# Altium integrated library NSC Switcher.IntLib: 922 symbols (part 22 of 24)
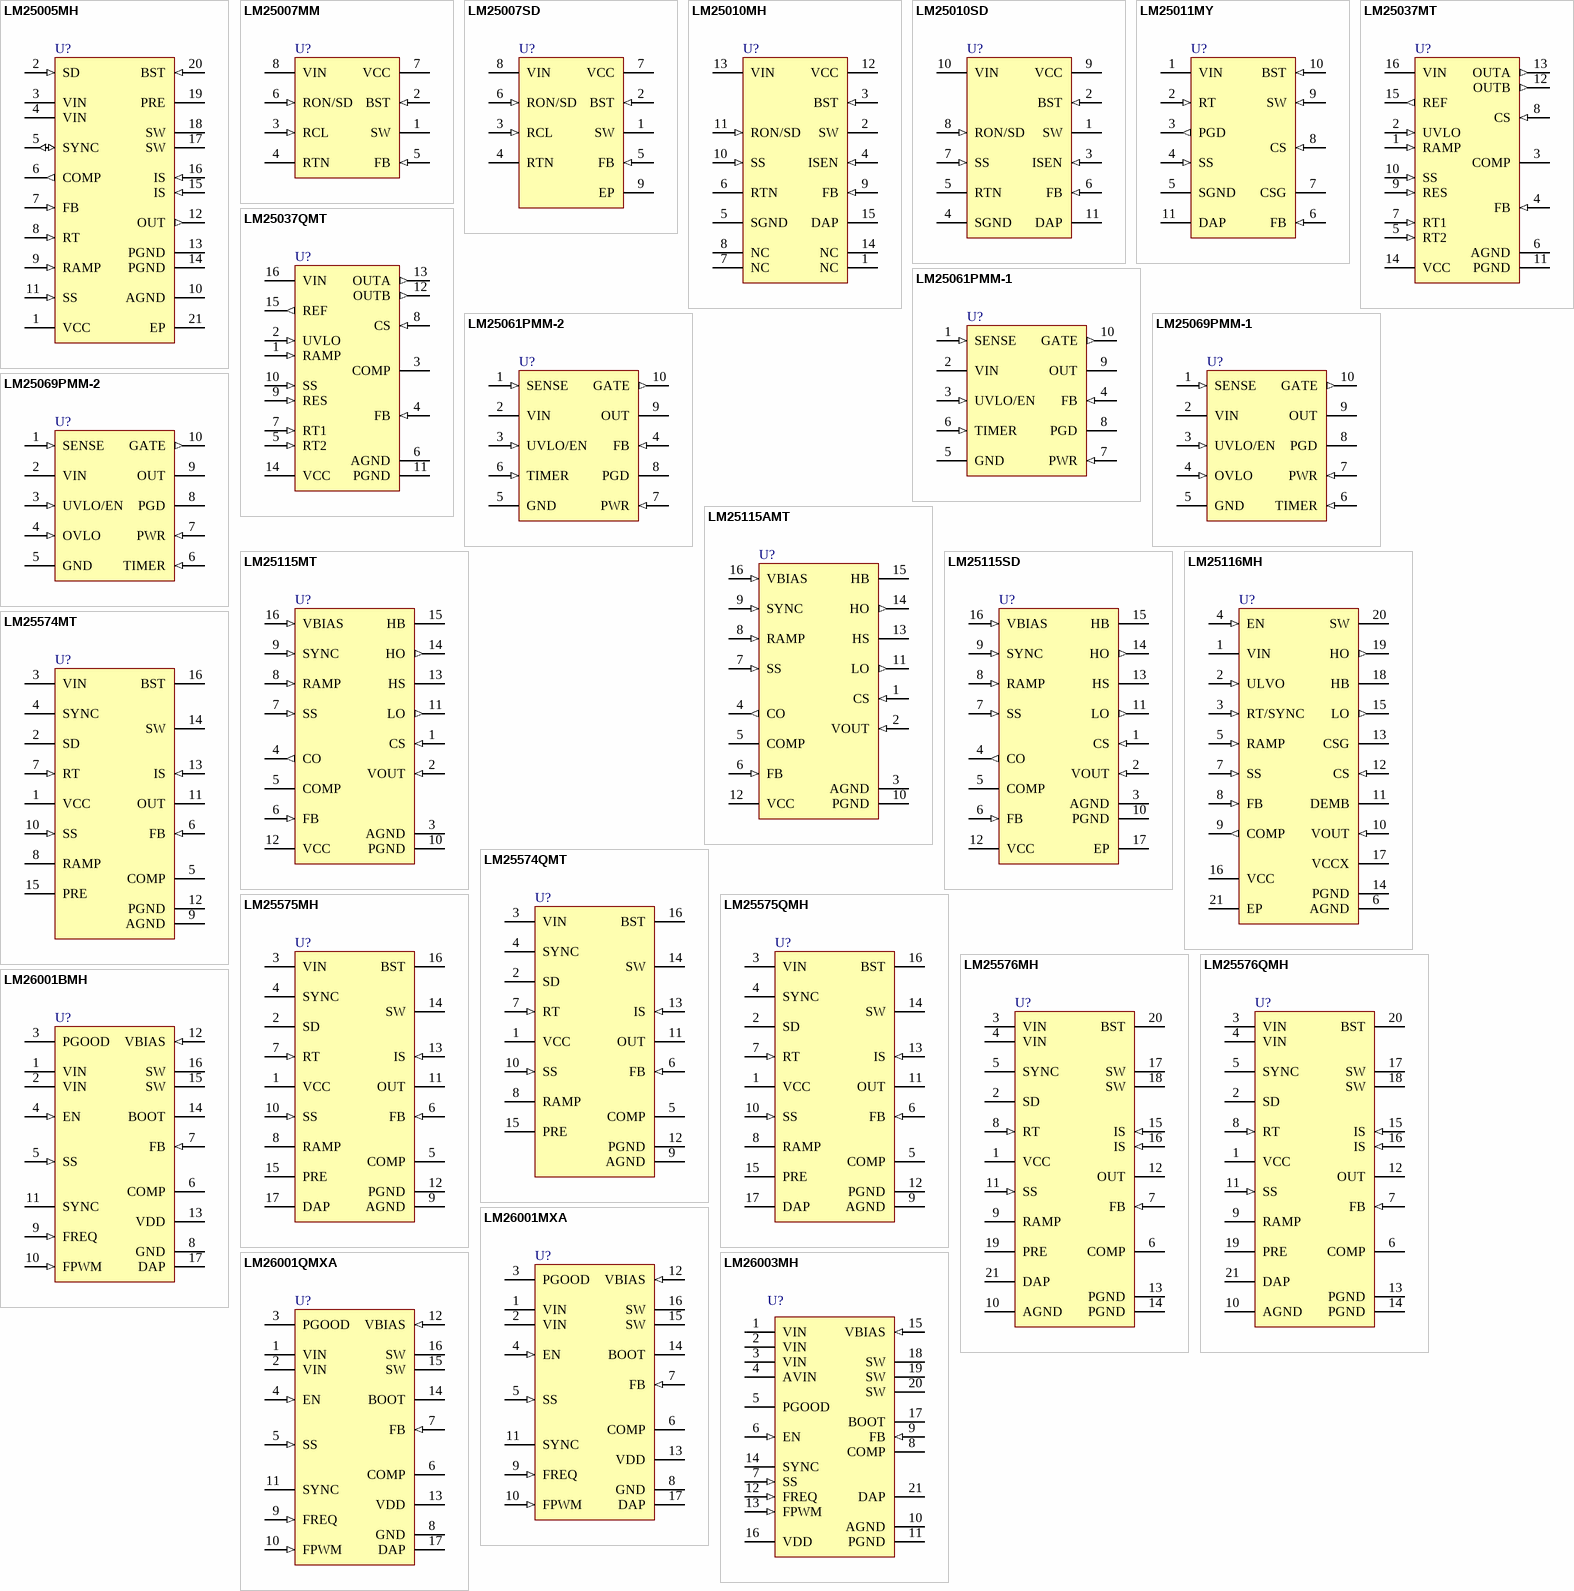
[diagram p49: symbols LM25005MH to LM26003MH]

## LM25061PMM-1
designator U?
Positive Low Voltage Power Limiting Hot Swap Controller; PartNumber: LM25061PMM-1; Manufacturer: National Semiconductor; CompType: Switcher; PackageTopMarking: ZXTT*SXSB; PowerWise: N; FirstPublished: 9-Oct-2009; DatasheetVersion: Jul-2009; PackageVersion: revB, Jul-2003; PackageReference: MUB10A; Publisher: Altium Limited; PackageDescription: Mini-SO, Molded, .118 x .118 x .034in Body, 10 Lead, .0197in Pitch; RoHS: Y; PinCount: 10; DigiKeyPartNumber: LM25061PMM-1-ND; Code_JEDEC: MO-187-BA; ComponentLink1Description: LM25061 Datasheet; ComponentLink1URL: http://www.national.com/ds/LM/LM25061.pdf; ComponentLink2Description: LM25061 Web Page; ComponentLink2URL: http://www.national.com/pf/LM/LM25061.html; ComponentLink3Description: MUB10A Package Page; ComponentLink3URL: http://www.national.com/packaging/folders/mub10a.html
footprint MUB10A_N (TSSOP, 10-Leads, Body 3x3mm, Pitch 0.5mm, IPC Medium Density)
footprint MUB10A_L (TSSOP, 10-Leads, Body 3x3mm, Pitch 0.5mm, IPC High Density)
footprint MUB10A_M (TSSOP, 10-Leads, Body 3x3mm, Pitch 0.5mm, IPC Low Density)
pins: 1 SENSE (in), 2 VIN (power), 3 UVLO/EN (in), 4 FB (in), 5 GND (power), 6 TIMER (in), 7 PWR (in), 8 PGD (oc), 9 OUT (power), 10 GATE (out)

## LM25061PMM-2
designator U?
Positive Low Voltage Power Limiting Hot Swap Controller; PartNumber: LM25061PMM-2; Manufacturer: National Semiconductor; CompType: Switcher; PackageTopMarking: ZXTT*SXRB; PowerWise: N; FirstPublished: 9-Oct-2009; DatasheetVersion: Jul-2009; PackageVersion: revB, Jul-2003; PackageReference: MUB10A; Publisher: Altium Limited; PackageDescription: Mini-SO, Molded, .118 x .118 x .034in Body, 10 Lead, .0197in Pitch; RoHS: Y; PinCount: 10; DigiKeyPartNumber: LM25061PMM-2-ND; Code_JEDEC: MO-187-BA; ComponentLink1Description: LM25061 Datasheet; ComponentLink1URL: http://www.national.com/ds/LM/LM25061.pdf; ComponentLink2Description: LM25061 Web Page; ComponentLink2URL: http://www.national.com/pf/LM/LM25061.html; ComponentLink3Description: MUB10A Package Page; ComponentLink3URL: http://www.national.com/packaging/folders/mub10a.html
footprint MUB10A_N (TSSOP, 10-Leads, Body 3x3mm, Pitch 0.5mm, IPC Medium Density)
footprint MUB10A_L (TSSOP, 10-Leads, Body 3x3mm, Pitch 0.5mm, IPC High Density)
footprint MUB10A_M (TSSOP, 10-Leads, Body 3x3mm, Pitch 0.5mm, IPC Low Density)
pins: 1 SENSE (in), 2 VIN (power), 3 UVLO/EN (in), 4 FB (in), 5 GND (power), 6 TIMER (in), 7 PWR (in), 8 PGD (oc), 9 OUT (power), 10 GATE (out)

## LM25069PMM-1
designator U?
Positive Low Voltage Power Limiting Hot Swap Controller; PartNumber: LM25069PMM-1; Manufacturer: National Semiconductor; CompType: Switcher; PackageTopMarking: ZXTT*SXNB; PowerWise: N; FirstPublished: 9-Oct-2009; DatasheetVersion: Jul-2009; PackageVersion: revB, Jul-2003; PackageReference: MUB10A; Publisher: Altium Limited; PackageDescription: Mini-SO, Molded, .118 x .118 x .034in Body, 10 Lead, .0197in Pitch; RoHS: Y; PinCount: 10; DigiKeyPartNumber: LM25069PMM-1-ND; Code_JEDEC: MO-187-BA; ComponentLink1Description: LM25069 Datasheet; ComponentLink1URL: http://www.national.com/ds/LM/LM25069.pdf; ComponentLink2Description: LM25069 Web Page; ComponentLink2URL: http://www.national.com/pf/LM/LM25069.html; ComponentLink3Description: MUB10A Package Page; ComponentLink3URL: http://www.national.com/packaging/folders/mub10a.html
footprint MUB10A_N (TSSOP, 10-Leads, Body 3x3mm, Pitch 0.5mm, IPC Medium Density)
footprint MUB10A_L (TSSOP, 10-Leads, Body 3x3mm, Pitch 0.5mm, IPC High Density)
footprint MUB10A_M (TSSOP, 10-Leads, Body 3x3mm, Pitch 0.5mm, IPC Low Density)
pins: 1 SENSE (in), 2 VIN (power), 3 UVLO/EN (in), 4 OVLO (in), 5 GND (power), 6 TIMER (in), 7 PWR (in), 8 PGD (oc), 9 OUT (power), 10 GATE (out)

## LM25069PMM-2
designator U?
Positive Low Voltage Power Limiting Hot Swap Controller; PartNumber: LM25069PMM-2; Manufacturer: National Semiconductor; CompType: Switcher; PackageTopMarking: ZXTT*SXLB; PowerWise: N; FirstPublished: 9-Oct-2009; DatasheetVersion: Jul-2009; PackageVersion: revB, Jul-2003; PackageReference: MUB10A; Publisher: Altium Limited; PackageDescription: Mini-SO, Molded, .118 x .118 x .034in Body, 10 Lead, .0197in Pitch; RoHS: Y; PinCount: 10; DigiKeyPartNumber: LM25069PMM-2-ND; Code_JEDEC: MO-187-BA; ComponentLink1Description: LM25069 Datasheet; ComponentLink1URL: http://www.national.com/ds/LM/LM25069.pdf; ComponentLink2Description: LM25069 Web Page; ComponentLink2URL: http://www.national.com/pf/LM/LM25069.html; ComponentLink3Description: MUB10A Package Page; ComponentLink3URL: http://www.national.com/packaging/folders/mub10a.html
footprint MUB10A_N (TSSOP, 10-Leads, Body 3x3mm, Pitch 0.5mm, IPC Medium Density)
footprint MUB10A_L (TSSOP, 10-Leads, Body 3x3mm, Pitch 0.5mm, IPC High Density)
footprint MUB10A_M (TSSOP, 10-Leads, Body 3x3mm, Pitch 0.5mm, IPC Low Density)
pins: 1 SENSE (in), 2 VIN (power), 3 UVLO/EN (in), 4 OVLO (in), 5 GND (power), 6 TIMER (in), 7 PWR (in), 8 PGD (oc), 9 OUT (power), 10 GATE (out)

## LM25115AMT
designator U?
Secondary Side Post Regulator/DC-DC Converter with Power-Up/Power-Down Tracking; PartNumber: LM25115AMT; Manufacturer: National Semiconductor; CompType: Switcher; PackageTopMarking: NSUZXYTT*L25115*AMT; FirstPublished: 4-Dec-2008; DatasheetVersion: Nov-2005; PackageVersion: revD, Jun-2003; PackageReference: MTC16; Publisher: Altium Limited; PackageDescription: Molded TSSOP, Jedec, 5 x 4.4 x 0.9mm Body, 16 Lead, 0.65mm Pitch; RoHS: Y; PinCount: 16; DigiKeyPartNumber: LM25115AMT-ND; Code_JEDEC: MO-153-AB; ComponentLink1Description: LM25115A Datasheet; ComponentLink1URL: http://www.national.com/ds/LM/LM25115A.pdf; ComponentLink2Description: LM25115A Web Page; ComponentLink2URL: http://www.national.com/pf/LM/LM25115A.html; ComponentLink3Description: MTC16 Package Drawing; ComponentLink3URL: http://www.national.com/packaging/folders/mtc16.html
footprint MTC16_N (TSOP, 16-Leads, Body 5x4.4mm, Pitch 0.65mm, IPC Medium Density)
footprint MTC16_L (TSOP, 16-Leads, Body 5x4.4mm, Pitch 0.65mm, IPC High Density)
footprint MTC16_M (TSOP, 16-Leads, Body 5x4.4mm, Pitch 0.65mm, IPC Low Density)
pins: 1 CS (in), 2 VOUT (in), 3 AGND (power), 4 CO (out), 5 COMP, 6 FB (in), 7 SS (in), 8 RAMP (in), 9 SYNC (in), 10 PGND (power), 11 LO (out), 12 VCC (power), 13 HS, 14 HO (out), 15 HB, 16 VBIAS (in)

## LM25115MT
designator U?
Secondary Side Post Regulator Controller; PartNumber: LM25115MT; Manufacturer: National Semiconductor; CompType: Switcher; PackageTopMarking: NSUZXYTT*L25115*MT; FirstPublished: 4-Dec-2008; DatasheetVersion: Nov-2005; PackageVersion: revD, Jun-2003; PackageReference: MTC16; Publisher: Altium Limited; PackageDescription: Molded TSSOP, Jedec, 5 x 4.4 x 0.9mm Body, 16 Lead, 0.65mm Pitch; RoHS: Y; PinCount: 16; DigiKeyPartNumber: LM25115MT-ND; Code_JEDEC: MO-153-AB; ComponentLink1Description: LM25115 Datasheet; ComponentLink1URL: http://www.national.com/ds/LM/LM25115.pdf; ComponentLink2Description: LM25115 Web Page; ComponentLink2URL: http://www.national.com/pf/LM/LM25115.html; ComponentLink3Description: MTC16 Package Drawing; ComponentLink3URL: http://www.national.com/packaging/folders/mtc16.html
footprint MTC16_N (TSOP, 16-Leads, Body 5x4.4mm, Pitch 0.65mm, IPC Medium Density)
footprint MTC16_L (TSOP, 16-Leads, Body 5x4.4mm, Pitch 0.65mm, IPC High Density)
footprint MTC16_M (TSOP, 16-Leads, Body 5x4.4mm, Pitch 0.65mm, IPC Low Density)
pins: 1 CS (in), 2 VOUT (in), 3 AGND (power), 4 CO (out), 5 COMP, 6 FB (in), 7 SS (in), 8 RAMP (in), 9 SYNC (in), 10 PGND (power), 11 LO (out), 12 VCC (power), 13 HS, 14 HO (out), 15 HB, 16 VBIAS (in)

## LM25115SD
designator U?
Secondary Side Post Regulator Controller; PartNumber: LM25115SD; Manufacturer: National Semiconductor; CompType: Switcher; PackageTopMarking: NS*UZXYTT*L25115; FirstPublished: 4-Dec-2008; DatasheetVersion: Nov-2005; PackageVersion: revA, May-2003; PackageReference: SDA16A; Publisher: Altium Limited; PackageDescription: LLP, Plastic, Dual, 5 x 5 x 0.8mm Body,16 Lead, 0.5mm Pitch, No Pullback; RoHS: Y; PinCount: 16; DigiKeyPartNumber: LM25115SDCT-ND; ComponentLink1Description: LM25115 Datasheet; ComponentLink1URL: http://www.national.com/ds/LM/LM25115.pdf; ComponentLink2Description: LM25115 Web Page; ComponentLink2URL: http://www.national.com/pf/LM/LM25115.html; ComponentLink3Description: SDA16A Package Drawing; ComponentLink3URL: http://www.national.com/packaging/folders/sda16a.html
footprint SDA16A (SON, 16-Leads, Body 5x5mm, Pitch 0.5mm, NSC Recommended)
pins: 1 CS (in), 2 VOUT (in), 3 AGND (power), 4 CO (out), 5 COMP, 6 FB (in), 7 SS (in), 8 RAMP (in), 9 SYNC (in), 10 PGND (power), 11 LO (out), 12 VCC (power), 13 HS, 14 HO (out), 15 HB, 16 VBIAS (in), 17 EP (power)

## LM25116MH
designator U?
Wide Range Synchronous Buck Controller; PartNumber: LM25116MH; Manufacturer: National Semiconductor; CompType: Switcher; PackageTopMarking: NSUZXYTT*LM25116*MH; FirstPublished: 4-Dec-2008; DatasheetVersion: Apr-2007; PackageVersion: revC, Jul-2006; PackageReference: MXA20A; Publisher: Altium Limited; PackageDescription: Molded TSSOP, Jedec, 6.5 x 4.4 x 0.9mm Body, 20 Lead, 0.65mm Pitch, Exposed Pad; RoHS: Y; PinCount: 20; DigiKeyPartNumber: LM25116MH-ND; Code_JEDEC: MO-153-ACT; ComponentLink1Description: LM25116 Datasheet; ComponentLink1URL: http://www.national.com/ds/LM/LM25116.pdf; ComponentLink2Description: LM25116 Web Page; ComponentLink2URL: http://www.national.com/pf/LM/LM25116.html; ComponentLink3Description: MXA20A Package Drawing; ComponentLink3URL: http://www.national.com/packaging/folders/mxa20a.html
footprint MXA20A_N (TSOP, 20-Leads, Body 6.5x4.4mm, Pitch 0.65mm, Exposed Pad, IPC Medium Density)
footprint MXA20A_L (TSOP, 20-Leads, Body 6.5x4.4mm, Pitch 0.65mm, Exposed Pad, IPC High Density)
footprint MXA20A_M (TSOP, 20-Leads, Body 6.5x4.4mm, Pitch 0.65mm, Exposed Pad, IPC Low Density)
pins: 1 VIN (power), 2 ULVO (in), 3 RT/SYNC (in), 4 EN (in), 5 RAMP (in), 6 AGND (power), 7 SS (in), 8 FB (in), 9 COMP (out), 10 VOUT (in), 11 DEMB, 12 CS (in), 13 CSG, 14 PGND (power), 15 LO (out), 16 VCC (power), 17 VCCX (power), 18 HB, 19 HO (out), 20 SW (power), 21 EP (power)

## LM25574MT
designator U?
SIMPLE SWITCHER 42V, 0.5A Step-Down Switching Regulator; PartNumber: LM25574MT; Manufacturer: National Semiconductor; PackageTopMarking: NSUZXYTT*L25574*MT; PowerWise: Y; FirstPublished: 4-Dec-2008; DatasheetVersion: Mar-2009; PackageVersion: revD, Jun-2003; PackageReference: MTC16; Publisher: Altium Limited; PackageDescription: Molded TSSOP, Jedec, 5 x 4.4 x 0.9mm Body, 16 Lead, 0.65mm Pitch; CompType: Switcher; RoHS: Y; PinCount: 16; DigiKeyPartNumber: LM25574MT-ND; Code_JEDEC: MO-153-AB; ComponentLink1Description: LM25574 Datasheet; ComponentLink1URL: http://www.national.com/ds/LM/LM25574.pdf; ComponentLink2Description: LM25574 Web Page; ComponentLink2URL: http://www.national.com/pf/LM/LM25574.html; ComponentLink3Description: MTC16 Package Page; ComponentLink3URL: http://www.national.com/packaging/folders/mtc16.html
footprint MTC16_N (TSOP, 16-Leads, Body 5x4.4mm, Pitch 0.65mm, IPC Medium Density)
footprint MTC16_L (TSOP, 16-Leads, Body 5x4.4mm, Pitch 0.65mm, IPC High Density)
footprint MTC16_M (TSOP, 16-Leads, Body 5x4.4mm, Pitch 0.65mm, IPC Low Density)
pins: 1 VCC (power), 2 SD, 3 VIN (power), 4 SYNC, 5 COMP, 6 FB (in), 7 RT (in), 8 RAMP, 9 AGND (power), 10 SS (in), 11 OUT (power), 12 PGND (power), 13 IS (in), 14 SW (power), 15 PRE (oc), 16 BST

## LM25574QMT
designator U?
SIMPLE SWITCHER® 42V, 0.5A Step-Down Switching Regulator; PartNumber: LM25574QMT; Manufacturer: National Semiconductor; PackageTopMarking: NSUZXYTT*L25574*QMT; PowerWise: N; FirstPublished: 29-May-2009; DatasheetVersion: Mar-2009; PackageVersion: revD, Jun-2003; PackageReference: MTC16; Publisher: Altium Limited; PackageDescription: Molded TSSOP, Jedec, 5 x 4.4 x 0.9mm Body, 16 Lead, 0.65mm Pitch; CompType: Switcher; RoHS: Y; PinCount: 16; Code_JEDEC: MO-153-AB; ComponentLink1Description: LM25574 Datasheet; ComponentLink1URL: http://www.national.com/ds/LM/LM25574.pdf; ComponentLink2Description: LM25574 Web Page; ComponentLink2URL: http://www.national.com/pf/LM/LM25574.html; ComponentLink3Description: MTC16 Package Page; ComponentLink3URL: http://www.national.com/packaging/folders/mtc16.html
footprint MTC16_N (TSOP, 16-Leads, Body 5x4.4mm, Pitch 0.65mm, IPC Medium Density)
footprint MTC16_L (TSOP, 16-Leads, Body 5x4.4mm, Pitch 0.65mm, IPC High Density)
footprint MTC16_M (TSOP, 16-Leads, Body 5x4.4mm, Pitch 0.65mm, IPC Low Density)
pins: 1 VCC (power), 2 SD, 3 VIN (power), 4 SYNC, 5 COMP, 6 FB (in), 7 RT (in), 8 RAMP, 9 AGND (power), 10 SS (in), 11 OUT (power), 12 PGND (power), 13 IS (in), 14 SW (power), 15 PRE (oc), 16 BST

## LM25575MH
designator U?
SIMPLE SWITCHER 42V, 1.5A Step-Down Switching Regulator; PartNumber: LM25575MH; Manufacturer: National Semiconductor; PackageTopMarking: NSUZXYTT*L25575*MH; PowerWise: Y; FirstPublished: 4-Dec-2008; DatasheetVersion: Mar-2009; PackageVersion: revA, Apr-2003; PackageReference: MXA16A; Publisher: Altium Limited; PackageDescription: Molded TSSOP, Jedec, Exposed Pad, 5.0 x 4.4 x 0.9mm Body,16 Lead, 0.65mm Pitch; CompType: Switcher; RoHS: O; PinCount: 16; DigiKeyPartNumber: LM25575MH-ND; Code_JEDEC: MO-153-ABT; ComponentLink1Description: LM25575 Datasheet; ComponentLink1URL: http://www.national.com/ds/LM/LM25575.pdf; ComponentLink2Description: LM25575 Web Page; ComponentLink2URL: http://www.national.com/pf/LM/LM25575.html; ComponentLink3Description: MXA16A Package Page; ComponentLink3URL: http://www.national.com/packaging/folders/mxa16a.html
footprint MXA16A_N (TSOP, 16-Leads, Body 5x4.4mm, Pitch 0.65mm, Exposed Pad, IPC Medium Density)
footprint MXA16A_L (TSOP, 16-Leads, Body 5x4.4mm, Pitch 0.65mm, Exposed Pad, IPC High Density)
footprint MXA16A_M (TSOP, 16-Leads, Body 5x4.4mm, Pitch 0.65mm, Exposed Pad, IPC Low Density)
pins: 1 VCC (power), 2 SD, 3 VIN (power), 4 SYNC, 5 COMP, 6 FB (in), 7 RT (in), 8 RAMP, 9 AGND (power), 10 SS (in), 11 OUT (power), 12 PGND (power), 13 IS (in), 14 SW (power), 15 PRE (oc), 16 BST, 17 DAP (power)

## LM25575QMH
designator U?
SIMPLE SWITCHER® 42V, 1.5A Step-Down Switching Regulator; PartNumber: LM25575QMH; Manufacturer: National Semiconductor; PackageTopMarking: NSUZXYTT*L25575*QMH; PowerWise: N; FirstPublished: 29-May-2009; DatasheetVersion: Mar-2009; PackageVersion: revA, Apr-2003; PackageReference: MXA16A; Publisher: Altium Limited; PackageDescription: Molded TSSOP, Jedec, Exposed Pad, 5.0 x 4.4 x 0.9mm Body,16 Lead, 0.65mm Pitch; CompType: Switcher; RoHS: Y; PinCount: 16; Code_JEDEC: MO-153-ABT; ComponentLink1Description: LM25575 Datasheet; ComponentLink1URL: http://www.national.com/ds/LM/LM25575.pdf; ComponentLink2Description: LM25575 Web Page; ComponentLink2URL: http://www.national.com/pf/LM/LM25575.html; ComponentLink3Description: MXA16A Package Page; ComponentLink3URL: http://www.national.com/packaging/folders/mxa16a.html
footprint MXA16A_N (TSOP, 16-Leads, Body 5x4.4mm, Pitch 0.65mm, Exposed Pad, IPC Medium Density)
footprint MXA16A_L (TSOP, 16-Leads, Body 5x4.4mm, Pitch 0.65mm, Exposed Pad, IPC High Density)
footprint MXA16A_M (TSOP, 16-Leads, Body 5x4.4mm, Pitch 0.65mm, Exposed Pad, IPC Low Density)
pins: 1 VCC (power), 2 SD, 3 VIN (power), 4 SYNC, 5 COMP, 6 FB (in), 7 RT (in), 8 RAMP, 9 AGND (power), 10 SS (in), 11 OUT (power), 12 PGND (power), 13 IS (in), 14 SW (power), 15 PRE (oc), 16 BST, 17 DAP (power)

## LM25576MH
designator U?
SIMPLE SWITCHER 42V, 3A Step-Down Switching Regulator; PartNumber: LM25576MH; Manufacturer: National Semiconductor; PackageTopMarking: NSUZXYTT*LM25576*MH; PowerWise: Y; FirstPublished: 4-Dec-2008; DatasheetVersion: Mar-2009; PackageVersion: revC, Jul-2006; PackageReference: MXA20A; Publisher: Altium Limited; PackageDescription: Molded TSSOP, Jedec, 6.5 x 4.4 x 0.9mm Body, 20 Lead, 0.65mm Pitch, Exposed Pad; CompType: Switcher; RoHS: O; PinCount: 20; DigiKeyPartNumber: LM25576MH-ND; Code_JEDEC: MO-153-ACT; ComponentLink1Description: LM25576 Datasheet; ComponentLink1URL: http://www.national.com/ds/LM/LM25576.pdf; ComponentLink2Description: LM25576 Web Page; ComponentLink2URL: http://www.national.com/pf/LM/LM25576.html; ComponentLink3Description: MXA20A Package Page; ComponentLink3URL: http://www.national.com/packaging/folders/mxa20a.html
footprint MXA20A_N (TSOP, 20-Leads, Body 6.5x4.4mm, Pitch 0.65mm, Exposed Pad, IPC Medium Density)
footprint MXA20A_L (TSOP, 20-Leads, Body 6.5x4.4mm, Pitch 0.65mm, Exposed Pad, IPC High Density)
footprint MXA20A_M (TSOP, 20-Leads, Body 6.5x4.4mm, Pitch 0.65mm, Exposed Pad, IPC Low Density)
pins: 1 VCC (power), 2 SD, 3 VIN (power), 4 VIN (power), 5 SYNC, 6 COMP, 7 FB (in), 8 RT (in), 9 RAMP, 10 AGND (power), 11 SS (in), 12 OUT (power), 13 PGND (power), 14 PGND (power), 15 IS (in), 16 IS (in), 17 SW (power), 18 SW (power), 19 PRE (oc), 20 BST, 21 DAP (power)

## LM25576QMH
designator U?
SIMPLE SWITCHER® 42V, 3A Step-Down Switching Regulator; PartNumber: LM25576QMH; Manufacturer: National Semiconductor; PackageTopMarking: NSUZXYTT*LM25576*QMH; PowerWise: N; FirstPublished: 29-May-2009; DatasheetVersion: Mar-2009; PackageVersion: revC, Jul-2006; PackageReference: MXA20A; Publisher: Altium Limited; PackageDescription: Molded TSSOP, Jedec, 6.5 x 4.4 x 0.9mm Body, 20 Lead, 0.65mm Pitch, Exposed Pad; CompType: Switcher; RoHS: Y; PinCount: 20; Code_JEDEC: MO-153-ACT; ComponentLink1Description: LM25576 Datasheet; ComponentLink1URL: http://www.national.com/ds/LM/LM25576.pdf; ComponentLink2Description: LM25576 Web Page; ComponentLink2URL: http://www.national.com/pf/LM/LM25576.html; ComponentLink3Description: MXA20A Package Page; ComponentLink3URL: http://www.national.com/packaging/folders/mxa20a.html
footprint MXA20A_N (TSOP, 20-Leads, Body 6.5x4.4mm, Pitch 0.65mm, Exposed Pad, IPC Medium Density)
footprint MXA20A_L (TSOP, 20-Leads, Body 6.5x4.4mm, Pitch 0.65mm, Exposed Pad, IPC High Density)
footprint MXA20A_M (TSOP, 20-Leads, Body 6.5x4.4mm, Pitch 0.65mm, Exposed Pad, IPC Low Density)
pins: 1 VCC (power), 2 SD, 3 VIN (power), 4 VIN (power), 5 SYNC, 6 COMP, 7 FB (in), 8 RT (in), 9 RAMP, 10 AGND (power), 11 SS (in), 12 OUT (power), 13 PGND (power), 14 PGND (power), 15 IS (in), 16 IS (in), 17 SW (power), 18 SW (power), 19 PRE (oc), 20 BST, 21 DAP (power)

## LM26001BMH
designator U?
1.5A Switching Regulator with High Efficiency Sleep Mode; PartNumber: LM26001BMH; Manufacturer: National Semiconductor; CompType: Switcher; PackageTopMarking: NSUZXYTT*L26001*BMH; PowerWise: Y; FirstPublished: 4-Dec-2008; DatasheetVersion: May-2008; PackageVersion: revA, Apr-2003; PackageReference: MXA16A; Publisher: Altium Limited; PackageDescription: Molded TSSOP, Jedec, Exposed Pad, 5.0 x 4.4 x 0.9mm Body,16 Lead, 0.65mm Pitch; RoHS: Y; PinCount: 16; DigiKeyPartNumber: LM26001BMH-ND; Code_JEDEC: MO-153-ABT; ComponentLink1Description: LM26001B Datasheet; ComponentLink1URL: http://www.national.com/ds/LM/LM26001B.pdf; ComponentLink2Description: LM26001B Web Page; ComponentLink2URL: http://www.national.com/pf/LM/LM26001B.html; ComponentLink3Description: MXA16A Package Page; ComponentLink3URL: http://www.national.com/packaging/folders/mxa16a.html
footprint MXA16A_N (TSOP, 16-Leads, Body 5x4.4mm, Pitch 0.65mm, Exposed Pad, IPC Medium Density)
footprint MXA16A_L (TSOP, 16-Leads, Body 5x4.4mm, Pitch 0.65mm, Exposed Pad, IPC High Density)
footprint MXA16A_M (TSOP, 16-Leads, Body 5x4.4mm, Pitch 0.65mm, Exposed Pad, IPC Low Density)
pins: 1 VIN (power), 2 VIN (power), 3 PGOOD (oc), 4 EN (in), 5 SS (in), 6 COMP, 7 FB (in), 8 GND (power), 9 FREQ (in), 10 FPWM (in), 11 SYNC, 12 VBIAS (in), 13 VDD (power), 14 BOOT, 15 SW (power), 16 SW (power), 17 DAP (power)

## LM26001MXA
designator U?
1.5A Switching Regulator with High Efficiency Sleep Mode; PartNumber: LM26001MXA; Manufacturer: National Semiconductor; CompType: Switcher; PackageTopMarking: NSUZXYTT*L26001*MXA; PowerWise: Y; FirstPublished: 4-Dec-2008; DatasheetVersion: Apr-2009; PackageVersion: revA, Apr-2003; PackageReference: MXA16A; Publisher: Altium Limited; PackageDescription: Molded TSSOP, Jedec, Exposed Pad, 5.0 x 4.4 x 0.9mm Body,16 Lead, 0.65mm Pitch; RoHS: Y; PinCount: 16; DigiKeyPartNumber: LM26001MXA-ND; Code_JEDEC: MO-153-ABT; ComponentLink1Description: LM26001 Datasheet; ComponentLink1URL: http://www.national.com/ds/LM/LM26001.pdf; ComponentLink2Description: LM26001 Web Page; ComponentLink2URL: http://www.national.com/pf/LM/LM26001.html; ComponentLink3Description: MXA16A Package Page; ComponentLink3URL: http://www.national.com/packaging/folders/mxa16a.html
footprint MXA16A_N (TSOP, 16-Leads, Body 5x4.4mm, Pitch 0.65mm, Exposed Pad, IPC Medium Density)
footprint MXA16A_L (TSOP, 16-Leads, Body 5x4.4mm, Pitch 0.65mm, Exposed Pad, IPC High Density)
footprint MXA16A_M (TSOP, 16-Leads, Body 5x4.4mm, Pitch 0.65mm, Exposed Pad, IPC Low Density)
pins: 1 VIN (power), 2 VIN (power), 3 PGOOD (oc), 4 EN (in), 5 SS (in), 6 COMP, 7 FB (in), 8 GND (power), 9 FREQ (in), 10 FPWM (in), 11 SYNC, 12 VBIAS (in), 13 VDD (power), 14 BOOT, 15 SW (power), 16 SW (power), 17 DAP (power)

## LM26001QMXA
designator U?
1.5A Switching Regulator with High Efficiency Sleep Mode; PartNumber: LM26001QMXA; Manufacturer: National Semiconductor; CompType: Switcher; PackageTopMarking: NSUZXYTT*L26001*QMXA; PowerWise: N; FirstPublished: 29-May-2009; DatasheetVersion: Apr-2009; PackageVersion: revA, Apr-2003; PackageReference: MXA16A; Publisher: Altium Limited; PackageDescription: Molded TSSOP, Jedec, Exposed Pad, 5.0 x 4.4 x 0.9mm Body,16 Lead, 0.65mm Pitch; RoHS: Y; PinCount: 16; Code_JEDEC: MO-153-ABT; ComponentLink1Description: LM26001 Datasheet; ComponentLink1URL: http://www.national.com/ds/LM/LM26001.pdf; ComponentLink2Description: LM26001 Web Page; ComponentLink2URL: http://www.national.com/pf/LM/LM26001.html; ComponentLink3Description: MXA16A Package Page; ComponentLink3URL: http://www.national.com/packaging/folders/mxa16a.html
footprint MXA16A_N (TSOP, 16-Leads, Body 5x4.4mm, Pitch 0.65mm, Exposed Pad, IPC Medium Density)
footprint MXA16A_L (TSOP, 16-Leads, Body 5x4.4mm, Pitch 0.65mm, Exposed Pad, IPC High Density)
footprint MXA16A_M (TSOP, 16-Leads, Body 5x4.4mm, Pitch 0.65mm, Exposed Pad, IPC Low Density)
pins: 1 VIN (power), 2 VIN (power), 3 PGOOD (oc), 4 EN (in), 5 SS (in), 6 COMP, 7 FB (in), 8 GND (power), 9 FREQ (in), 10 FPWM (in), 11 SYNC, 12 VBIAS (in), 13 VDD (power), 14 BOOT, 15 SW (power), 16 SW (power), 17 DAP (power)

## LM26003MH
designator U?
3A Switching Regulator with High Efficiency Sleep Mode; PartNumber: LM26003MH; Manufacturer: National Semiconductor; CompType: Switcher; PackageTopMarking: NSUZXYTT*LM26003*MH; PowerWise: Y; FirstPublished: 4-Dec-2008; DatasheetVersion: Mar-2009; PackageVersion: revC, Jul-2006; PackageReference: MXA20A; Publisher: Altium Limited; PackageDescription: Molded TSSOP, Jedec, 6.5 x 4.4 x 0.9mm Body, 20 Lead, 0.65mm Pitch, Exposed Pad; RoHS: Y; PinCount: 20; DigiKeyPartNumber: LM26003MH/NOPB-ND; Code_JEDEC: MO-153-ACT; ComponentLink1Description: LM26003 Datasheet; ComponentLink1URL: http://www.national.com/ds/LM/LM26003.pdf; ComponentLink2Description: LM26003 Web Page; ComponentLink2URL: http://www.national.com/pf/LM/LM26003.html; ComponentLink3Description: MXA20A Package Drawing; ComponentLink3URL: http://www.national.com/packaging/folders/mxa20a.html
footprint MXA20A_N (TSOP, 20-Leads, Body 6.5x4.4mm, Pitch 0.65mm, Exposed Pad, IPC Medium Density)
footprint MXA20A_L (TSOP, 20-Leads, Body 6.5x4.4mm, Pitch 0.65mm, Exposed Pad, IPC High Density)
footprint MXA20A_M (TSOP, 20-Leads, Body 6.5x4.4mm, Pitch 0.65mm, Exposed Pad, IPC Low Density)
pins: 1 VIN (power), 2 VIN (power), 3 VIN (power), 4 AVIN (power), 5 PGOOD (oc), 6 EN (in), 7 SS (in), 8 COMP, 9 FB (in), 10 AGND (power), 11 PGND (power), 12 FREQ (in), 13 FPWM (in), 14 SYNC, 15 VBIAS (in), 16 VDD (power), 17 BOOT, 18 SW (power), 19 SW (power), 20 SW (power), 21 DAP (power)

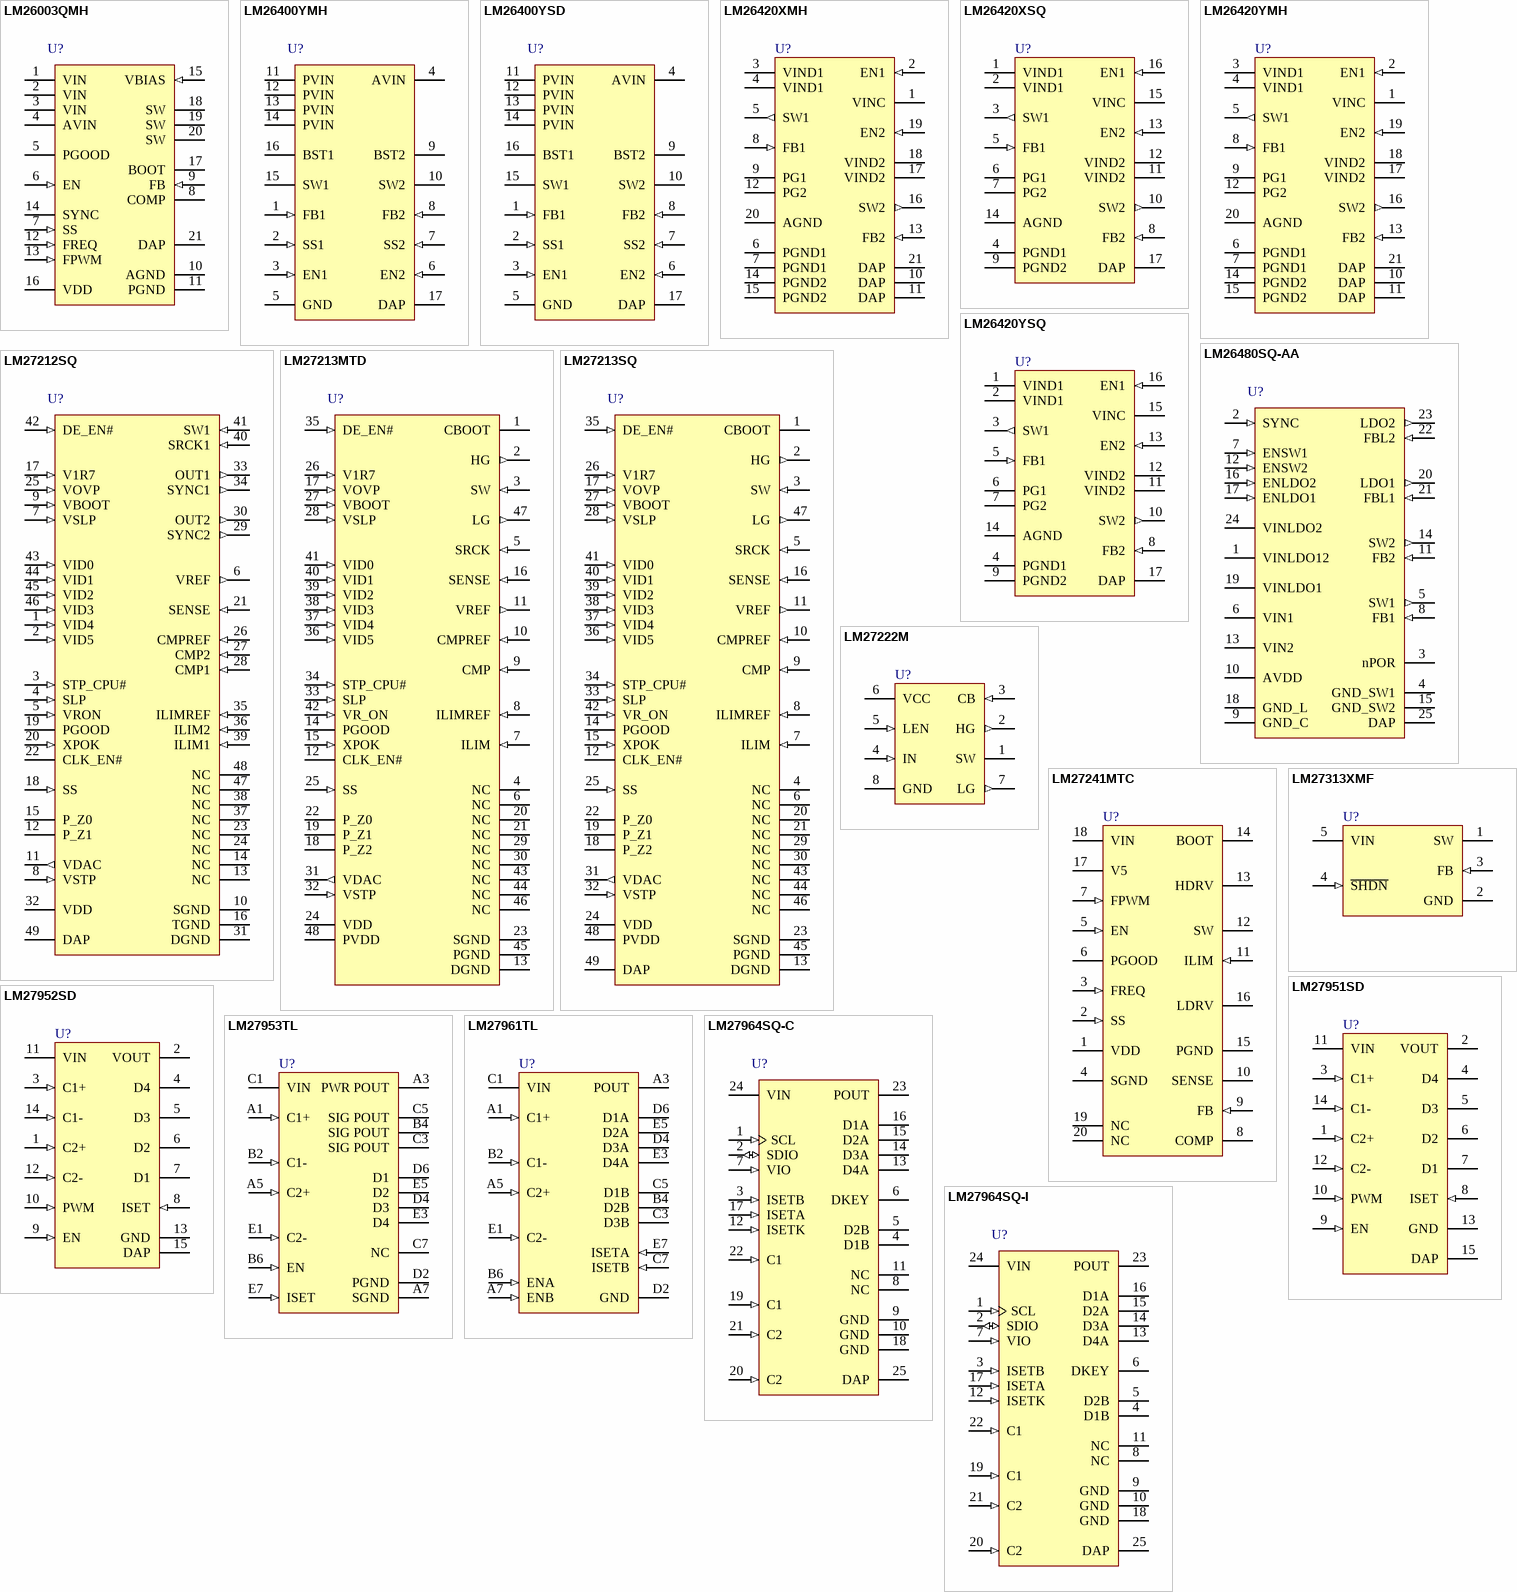
[diagram p26: symbols LM26003QMH to LM27964SQ-I]

## LM26003QMH
designator U?
3A Switching Regulator with High Efficiency Sleep Mode; PartNumber: LM26003QMH; Manufacturer: National Semiconductor; CompType: Switcher; PackageTopMarking: NSUZXYTT*LM26003*QMH; PowerWise: N; FirstPublished: 29-May-2009; DatasheetVersion: Mar-2009; PackageVersion: revC, Jul-2006; PackageReference: MXA20A; Publisher: Altium Limited; PackageDescription: Molded TSSOP, Jedec, 6.5 x 4.4 x 0.9mm Body, 20 Lead, 0.65mm Pitch, Exposed Pad; RoHS: Y; PinCount: 20; Code_JEDEC: MO-153-ACT; ComponentLink1Description: LM26003 Datasheet; ComponentLink1URL: http://www.national.com/ds/LM/LM26003.pdf; ComponentLink2Description: LM26003 Web Page; ComponentLink2URL: http://www.national.com/pf/LM/LM26003.html; ComponentLink3Description: MXA20A Package Page; ComponentLink3URL: http://www.national.com/packaging/folders/mxa20a.html
footprint MXA20A_N (TSOP, 20-Leads, Body 6.5x4.4mm, Pitch 0.65mm, Exposed Pad, IPC Medium Density)
footprint MXA20A_L (TSOP, 20-Leads, Body 6.5x4.4mm, Pitch 0.65mm, Exposed Pad, IPC High Density)
footprint MXA20A_M (TSOP, 20-Leads, Body 6.5x4.4mm, Pitch 0.65mm, Exposed Pad, IPC Low Density)
pins: 1 VIN (power), 2 VIN (power), 3 VIN (power), 4 AVIN (power), 5 PGOOD (oc), 6 EN (in), 7 SS (in), 8 COMP, 9 FB (in), 10 AGND (power), 11 PGND (power), 12 FREQ (in), 13 FPWM (in), 14 SYNC, 15 VBIAS (in), 16 VDD (power), 17 BOOT, 18 SW (power), 19 SW (power), 20 SW (power), 21 DAP (power)

## LM26400YMH
designator U?
Dual 2A, 500kHz Wide Input Range Buck Regulator; PartNumber: LM26400YMH; Manufacturer: National Semiconductor; CompType: Switcher; PackageTopMarking: NSUZXYTT*L26400*YMH; PowerWise: N; FirstPublished: 4-Dec-2008; DatasheetVersion: Aug-2007; PackageVersion: revA, Apr-2003; PackageReference: MXA16A; Publisher: Altium Limited; PackageDescription: Molded TSSOP, Jedec, Exposed Pad, 5.0 x 4.4 x 0.9mm Body,16 Lead, 0.65mm Pitch; RoHS: Y; PinCount: 16; DigiKeyPartNumber: LM26400YMH-ND; Code_JEDEC: MO-153-ABT; ComponentLink1Description: LM26400Y Datasheet; ComponentLink1URL: http://www.national.com/ds/LM/LM26400Y.pdf; ComponentLink2Description: LM26400Y Web Page; ComponentLink2URL: http://www.national.com/pf/LM/LM26400Y.html; ComponentLink3Description: MXA16A Package Page; ComponentLink3URL: http://www.national.com/packaging/folders/mxa16a.html
footprint MXA16A_N (TSOP, 16-Leads, Body 5x4.4mm, Pitch 0.65mm, Exposed Pad, IPC Medium Density)
footprint MXA16A_L (TSOP, 16-Leads, Body 5x4.4mm, Pitch 0.65mm, Exposed Pad, IPC High Density)
footprint MXA16A_M (TSOP, 16-Leads, Body 5x4.4mm, Pitch 0.65mm, Exposed Pad, IPC Low Density)
pins: 1 FB1 (in), 2 SS1 (in), 3 EN1 (in), 4 AVIN (power), 5 GND (power), 6 EN2 (in), 7 SS2 (in), 8 FB2 (in), 9 BST2, 10 SW2 (power), 11 PVIN (power), 12 PVIN (power), 13 PVIN (power), 14 PVIN (power), 15 SW1 (power), 16 BST1, 17 DAP (power)

## LM26400YSD
designator U?
Dual 2A, 500kHz Wide Input Range Buck Regulator; PartNumber: LM26400YSD; Manufacturer: National Semiconductor; CompType: Switcher; PackageTopMarking: NS*UZXYTT*L26400Y; PowerWise: N; FirstPublished: 4-Dec-2008; DatasheetVersion: Aug-2007; PackageVersion: revA, May-2003; PackageReference: SDA16A; Publisher: Altium Limited; PackageDescription: LLP, Plastic, Dual, 5 x 5 x 0.8mm Body,16 Lead, 0.5mm Pitch, No Pullback; RoHS: Y; PinCount: 16; DigiKeyPartNumber: LM26400YSDCT-ND; ComponentLink1Description: LM26400Y Datasheet; ComponentLink1URL: http://www.national.com/ds/LM/LM26400Y.pdf; ComponentLink2Description: LM26400Y Web Page; ComponentLink2URL: http://www.national.com/pf/LM/LM26400Y.html; ComponentLink3Description: SDA16A Package Page; ComponentLink3URL: http://www.national.com/packaging/folders/sda16a.html
footprint SDA16A (SON, 16-Leads, Body 5x5mm, Pitch 0.5mm, NSC Recommended)
pins: 1 FB1 (in), 2 SS1 (in), 3 EN1 (in), 4 AVIN (power), 5 GND (power), 6 EN2 (in), 7 SS2 (in), 8 FB2 (in), 9 BST2, 10 SW2 (power), 11 PVIN (power), 12 PVIN (power), 13 PVIN (power), 14 PVIN (power), 15 SW1 (power), 16 BST1, 17 DAP (power)

## LM26420XMH
designator U?
Dual 2.0A, High Frequency Synchronous Step-Down DC-DC Regulator, 2.2MHz; PartNumber: LM26420XMH; Manufacturer: National Semiconductor; CompType: Switcher; PackageTopMarking: NSUZXYTT*LM26420*XMH; PowerWise: Y; FirstPublished: 9-Oct-2009; DatasheetVersion: May-2009; PackageVersion: revC, Jul-2006; PackageReference: MXA20A; Publisher: Altium Limited; PackageDescription: Molded TSSOP, Jedec, 6.5 x 4.4 x 0.9mm Body, 20 Lead, 0.65mm Pitch, Exposed Pad; RoHS: Y; PinCount: 20; DigiKeyPartNumber: LM26420XMH-ND; Code_JEDEC: MO-153-ACT; ComponentLink1Description: LM26420 Datasheet; ComponentLink1URL: http://www.national.com/ds/LM/LM26420.pdf; ComponentLink2Description: LM26420 Web Page; ComponentLink2URL: http://www.national.com/pf/LM/LM26420.html; ComponentLink3Description: MXA20A Package Page; ComponentLink3URL: http://www.national.com/packaging/folders/mxa20a.html
footprint MXA20A_N (TSOP, 20-Leads, Body 6.5x4.4mm, Pitch 0.65mm, Exposed Pad, IPC Medium Density)
footprint MXA20A_L (TSOP, 20-Leads, Body 6.5x4.4mm, Pitch 0.65mm, Exposed Pad, IPC High Density)
footprint MXA20A_M (TSOP, 20-Leads, Body 6.5x4.4mm, Pitch 0.65mm, Exposed Pad, IPC Low Density)
pins: 1 VINC (power), 2 EN1 (in), 3 VIND1 (power), 4 VIND1 (power), 5 SW1 (out), 6 PGND1 (power), 7 PGND1 (power), 8 FB1 (in), 9 PG1 (oc), 10 DAP (power), 11 DAP (power), 12 PG2 (oc), 13 FB2 (in), 14 PGND2 (power), 15 PGND2 (power), 16 SW2 (out), 17 VIND2 (power), 18 VIND2 (power), 19 EN2 (in), 20 AGND (power), 21 DAP (power)

## LM26420XSQ
designator U?
Dual 2.0A, High Frequency Synchronous Step-Down DC-DC Regulator, 2.2MHz; PartNumber: LM26420XSQ; Manufacturer: National Semiconductor; CompType: Switcher; PackageTopMarking: NS*UZXYTT*L26420X; PowerWise: Y; FirstPublished: 9-Oct-2009; DatasheetVersion: May-2009; PackageVersion: revA, Dec-2005; PackageReference: SQB16A; Publisher: Altium Limited; PackageDescription: LLP, Plastic, Quad, 4 x 4 x 0.8mm, 16 Lead, 0.65mm Pitch, No Pullback; RoHS: Y; PinCount: 16; DigiKeyPartNumber: LM26420XSQCT-ND; ComponentLink1Description: LM26420 Datasheet; ComponentLink1URL: http://www.national.com/ds/LM/LM26420.pdf; ComponentLink2Description: LM26420 Web Page; ComponentLink2URL: http://www.national.com/pf/LM/LM26420.html; ComponentLink3Description: SQB16A Package Page; ComponentLink3URL: http://www.national.com/packaging/folders/sqb16a.html
footprint SQB16A (QFN, 16-Leads, Body 4x4mm, Pitch 0.65mm, NSC Recommended)
pins: 1 VIND1 (power), 2 VIND1 (power), 3 SW1 (out), 4 PGND1 (power), 5 FB1 (in), 6 PG1 (oc), 7 PG2 (oc), 8 FB2 (in), 9 PGND2 (power), 10 SW2 (out), 11 VIND2 (power), 12 VIND2 (power), 13 EN2 (in), 14 AGND (power), 15 VINC (power), 16 EN1 (in), 17 DAP (power)

## LM26420YMH
designator U?
Dual 2.0A, High Frequency Synchronous Step-Down DC-DC Regulator, 0.55MHz; PartNumber: LM26420YMH; Manufacturer: National Semiconductor; CompType: Switcher; PackageTopMarking: NSUZXYTT*LM26420*YMH; PowerWise: Y; FirstPublished: 9-Oct-2009; DatasheetVersion: May-2009; PackageVersion: revC, Jul-2006; PackageReference: MXA20A; Publisher: Altium Limited; PackageDescription: Molded TSSOP, Jedec, 6.5 x 4.4 x 0.9mm Body, 20 Lead, 0.65mm Pitch, Exposed Pad; RoHS: Y; PinCount: 20; DigiKeyPartNumber: LM26420YMH-ND; Code_JEDEC: MO-153-ACT; ComponentLink1Description: LM26420 Datasheet; ComponentLink1URL: http://www.national.com/ds/LM/LM26420.pdf; ComponentLink2Description: LM26420 Web Page; ComponentLink2URL: http://www.national.com/pf/LM/LM26420.html; ComponentLink3Description: MXA20A Package Page; ComponentLink3URL: http://www.national.com/packaging/folders/mxa20a.html
footprint MXA20A_N (TSOP, 20-Leads, Body 6.5x4.4mm, Pitch 0.65mm, Exposed Pad, IPC Medium Density)
footprint MXA20A_L (TSOP, 20-Leads, Body 6.5x4.4mm, Pitch 0.65mm, Exposed Pad, IPC High Density)
footprint MXA20A_M (TSOP, 20-Leads, Body 6.5x4.4mm, Pitch 0.65mm, Exposed Pad, IPC Low Density)
pins: 1 VINC (power), 2 EN1 (in), 3 VIND1 (power), 4 VIND1 (power), 5 SW1 (out), 6 PGND1 (power), 7 PGND1 (power), 8 FB1 (in), 9 PG1 (oc), 10 DAP (power), 11 DAP (power), 12 PG2 (oc), 13 FB2 (in), 14 PGND2 (power), 15 PGND2 (power), 16 SW2 (out), 17 VIND2 (power), 18 VIND2 (power), 19 EN2 (in), 20 AGND (power), 21 DAP (power)

## LM26420YSQ
designator U?
Dual 2.0A, High Frequency Synchronous Step-Down DC-DC Regulator, 0.55MHz; PartNumber: LM26420YSQ; Manufacturer: National Semiconductor; CompType: Switcher; PackageTopMarking: NS*UZXYTT*L26420Y; PowerWise: Y; FirstPublished: 9-Oct-2009; DatasheetVersion: May-2009; PackageVersion: revA, Dec-2005; PackageReference: SQB16A; Publisher: Altium Limited; PackageDescription: LLP, Plastic, Quad, 4 x 4 x 0.8mm, 16 Lead, 0.65mm Pitch, No Pullback; RoHS: Y; PinCount: 16; DigiKeyPartNumber: LM26420YSQCT-ND; ComponentLink1Description: LM26420 Datasheet; ComponentLink1URL: http://www.national.com/ds/LM/LM26420.pdf; ComponentLink2Description: LM26420 Web Page; ComponentLink2URL: http://www.national.com/pf/LM/LM26420.html; ComponentLink3Description: SQB16A Package Page; ComponentLink3URL: http://www.national.com/packaging/folders/sqb16a.html
footprint SQB16A (QFN, 16-Leads, Body 4x4mm, Pitch 0.65mm, NSC Recommended)
pins: 1 VIND1 (power), 2 VIND1 (power), 3 SW1 (out), 4 PGND1 (power), 5 FB1 (in), 6 PG1 (oc), 7 PG2 (oc), 8 FB2 (in), 9 PGND2 (power), 10 SW2 (out), 11 VIND2 (power), 12 VIND2 (power), 13 EN2 (in), 14 AGND (power), 15 VINC (power), 16 EN1 (in), 17 DAP (power)

## LM26480SQ-AA
designator U?
Externally Programmable Dual High-Current Step-Down DC/DC and Dual Linear Regulators; PartNumber: LM26480SQ-AA; Manufacturer: National Semiconductor; CompType: Switcher; PackageTopMarking: NS*UZXYTT*26480AA; FirstPublished: 4-Dec-2008; DatasheetVersion: Sep-2008; PackageVersion: revB, Aug-2003; PackageReference: SQA24A; Publisher: Altium Limited; PackageDescription: LLP, Plastic, Quad, 4 x 4 x 0.8mm Body, 24 Lead, 0.5mm Pitch, No Pullback; RoHS: Y; PinCount: 24; DigiKeyPartNumber: LM26480SQ-AAEV-ND; Code_JEDEC: MO-220-WGGD-6; ComponentLink1Description: LM26480 Datasheet; ComponentLink1URL: http://www.national.com/ds/LM/LM26480.pdf; ComponentLink2Description: LM26480 Web Page; ComponentLink2URL: http://www.national.com/pf/LM/LM26480.html; ComponentLink3Description: SQA24A Package Drawing; ComponentLink3URL: http://www.national.com/packaging/folders/sqa24a.html
footprint SQA24A (QFN, 24-Leads, Body 4x4mm, Pitch 0.5mm, NSC Recommended)
pins: 1 VINLDO12 (power) "Analog Power for Internal Functions (VREF, BIAS, I2C, Logic)", 2 SYNC (in) "Frequency Synchronization pin.", 3 nPOR (oc) "nPOR Power on reset pin for both Buck1 and Buck 2.", 4 GND_SW1 (power) "Buck1 NMOS Power Ground", 5 SW1 (out) "Buck1 switcher output pin", 6 VIN1 (power) "Power in from either DC source or Battery to Buck1", 7 ENSW1 (in) "Enable Pin for Buck1 switcher, a logic HIGH enables Buck1. Pin cannot be left floating.", 8 FB1 (in) "Buck1 input feedback terminal", 9 GND_C (power) "Non-switching core ground pin", 10 AVDD (power) "Analog Power for Buck converters", 11 FB2 (in) "Buck2 input feedback terminal", 12 ENSW2 (in) "Enable Pin for Buck2 switcher, a logic HIGH enables Buck2. Pin cannot be left floating.", 13 VIN2 (power) "Power in from either DC source or Battery to Buck2", 14 SW2 (out) "Buck2 switcher output pin", 15 GND_SW2 (power) "Buck2 NMOS", 16 ENLDO2 (in) "LDO2 enable pin, a logic HIGH enables LDO2. Pin cannot be left floating.", 17 ENLDO1 (in) "LDO1 enable pin, a logic HIGH enables LDO1. Pin cannot be left floating.", 18 GND_L (power) "LDO ground", 19 VINLDO1 (power) "Power in from either DC source or battery to LDO1", 20 LDO1 (out) "LDO1 Output", 21 FBL1 (in) "LDO1 Feedback Terminal", 22 FBL2 (in) "LDO2 Feedback Terminal", 23 LDO2 (out) "LDO Output", 24 VINLDO2 (power) "Power in from either DC source or battery to LDO2.", 25 DAP (power)

## LM27212SQ
designator U?
Two-Phase Current-Mode Hysteretic Buck Controller; PartNumber: LM27212SQ; Manufacturer: National Semiconductor; CompType: Switcher; PackageTopMarking: NS*UZXYTT*27212SQ; FirstPublished: 4-Dec-2008; DatasheetVersion: Mar-2006; PackageVersion: revA, May-2003; PackageReference: SQA48A; Publisher: Altium Limited; PackageDescription: LLP, Plastic, Quad, 7 x 7 x 0.8mm Body, 48 Lead, 0.5mm Pitch, No Pullback; RoHS: Y; PinCount: 48; DigiKeyPartNumber: LM27212SQCT-ND; Code_JEDEC: MO-220-WKKD-2; ComponentLink1Description: LM27212 Datasheet; ComponentLink1URL: http://www.national.com/ds/LM/LM27212.pdf; ComponentLink2Description: LM27212 Web Page; ComponentLink2URL: http://www.national.com/pf/LM/LM27212.html; ComponentLink3Description: SQA48A Package Drawing; ComponentLink3URL: http://www.national.com/packaging/folders/sqa48a.html
footprint SQA48A (QFN, 48-Leads, Body 7x7mm, Pitch 0.5mm, NSC Recommended)
pins: 1 VID4 (in), 2 VID5 (in), 3 STP_CPU# (in), 4 SLP (in), 5 VRON (in), 6 VREF (out), 7 VSLP (in), 8 VSTP (in), 9 VBOOT (in), 10 SGND (power), 11 VDAC (out), 12 P_Z1, 13 NC, 14 NC, 15 P_Z0, 16 TGND (power), 17 V1R7 (in), 18 SS (in), 19 PGOOD (oc), 20 XPOK (in), 21 SENSE (in), 22 CLK_EN# (oc), 23 NC, 24 NC, 25 VOVP (in), 26 CMPREF (in), 27 CMP2 (in), 28 CMP1 (in), 29 SYNC2 (out), 30 OUT2 (out), 31 DGND (power), 32 VDD (power), 33 OUT1 (out), 34 SYNC1 (out), 35 ILIMREF (in), 36 ILIM2 (in), 37 NC, 38 NC, 39 ILIM1 (in), 40 SRCK1 (in), 41 SW1 (in), 42 DE_EN# (in), 43 VID0 (in), 44 VID1 (in), 45 VID2 (in), 46 VID3 (in), 47 NC, 48 NC, 49 DAP (power)

## LM27213MTD
designator U?
Single Phase Hysteretic Buck Controller; PartNumber: LM27213MTD; Manufacturer: National Semiconductor; CompType: Switcher; PackageTopMarking: NSUZXYTT*27213MTD; FirstPublished: 4-Dec-2008; DatasheetVersion: Feb-2006; PackageVersion: revE, Apr-2003; PackageReference: MTD48; Publisher: Altium Limited; PackageDescription: Molded TSSOP, Jedec, 12.5 x 6.1 x 0.9mm Body, 48 Lead, 0.50mm Pitch; RoHS: Y; PinCount: 48; DigiKeyPartNumber: LM27213MTD-ND; Code_JEDEC: MO-153-ED; ComponentLink1Description: LM27213 Datasheet; ComponentLink1URL: http://www.national.com/ds/LM/LM27213.pdf; ComponentLink2Description: LM27213 Web Page; ComponentLink2URL: http://www.national.com/pf/LM/LM27213.html; ComponentLink3Description: MTD48 Package Drawing; ComponentLink3URL: http://www.national.com/packaging/folders/mtd48.html
footprint MTD48_N (TSSOP, 48-Leads, Body 12.5x6.1mm, Pitch 0.5mm, IPC Medium Density)
footprint MTD48_L (TSSOP, 48-Leads, Body 12.5x6.1mm, Pitch 0.5mm, IPC High Density)
footprint MTD48_M (TSSOP, 48-Leads, Body 12.5x6.1mm, Pitch 0.5mm, IPC Low Density)
pins: 1 CBOOT, 2 HG (out), 3 SW (in), 4 NC, 5 SRCK (in), 6 NC, 7 ILIM (in), 8 ILIMREF (in), 9 CMP (in), 10 CMPREF (in), 11 VREF (out), 12 CLK_EN# (oc), 13 DGND (power), 14 PGOOD (oc), 15 XPOK (in), 16 SENSE (in), 17 VOVP (in), 18 P_Z2, 19 P_Z1, 20 NC, 21 NC, 22 P_Z0, 23 SGND (power), 24 VDD (power), 25 SS (in), 26 V1R7 (in), 27 VBOOT (in), 28 VSLP (in), 29 NC, 30 NC, 31 VDAC (out), 32 VSTP (in), 33 SLP (in), 34 STP_CPU# (in), 35 DE_EN# (in), 36 VID5 (in), 37 VID4 (in), 38 VID3 (in), 39 VID2 (in), 40 VID1 (in), 41 VID0 (in), 42 VR_ON (in), 43 NC, 44 NC, 45 PGND (power), 46 NC, 47 LG (out), 48 PVDD (power)

## LM27213SQ
designator U?
Single Phase Hysteretic Buck Controller; PartNumber: LM27213SQ; Manufacturer: National Semiconductor; CompType: Switcher; PackageTopMarking: NS*UZXYTT*27213SQ; FirstPublished: 4-Dec-2008; DatasheetVersion: Feb-2006; PackageVersion: revA, May-2003; PackageReference: SQA48A; Publisher: Altium Limited; PackageDescription: LLP, Plastic, Quad, 7 x 7 x 0.8mm Body, 48 Lead, 0.5mm Pitch, No Pullback; RoHS: Y; PinCount: 48; DigiKeyPartNumber: LM27213SQ-ND; Code_JEDEC: MO-220-WKKD-2; ComponentLink1Description: LM27213 Datasheet; ComponentLink1URL: http://www.national.com/ds/LM/LM27213.pdf; ComponentLink2Description: LM27213 Web Page; ComponentLink2URL: http://www.national.com/pf/LM/LM27213.html; ComponentLink3Description: SQA48A Package Drawing; ComponentLink3URL: http://www.national.com/packaging/folders/sqa48a.html
footprint SQA48A (QFN, 48-Leads, Body 7x7mm, Pitch 0.5mm, NSC Recommended)
pins: 1 CBOOT, 2 HG (out), 3 SW (in), 4 NC, 5 SRCK (in), 6 NC, 7 ILIM (in), 8 ILIMREF (in), 9 CMP (in), 10 CMPREF (in), 11 VREF (out), 12 CLK_EN# (oc), 13 DGND (power), 14 PGOOD (oc), 15 XPOK (in), 16 SENSE (in), 17 VOVP (in), 18 P_Z2, 19 P_Z1, 20 NC, 21 NC, 22 P_Z0, 23 SGND (power), 24 VDD (power), 25 SS (in), 26 V1R7 (in), 27 VBOOT (in), 28 VSLP (in), 29 NC, 30 NC, 31 VDAC (out), 32 VSTP (in), 33 SLP (in), 34 STP_CPU# (in), 35 DE_EN# (in), 36 VID5 (in), 37 VID4 (in), 38 VID3 (in), 39 VID2 (in), 40 VID1 (in), 41 VID0 (in), 42 VR_ON (in), 43 NC, 44 NC, 45 PGND (power), 46 NC, 47 LG (out), 48 PVDD (power), 49 DAP (power)

## LM27222M
designator U?
High-Speed 4.5A Synchronous MOSFET Driver; PartNumber: LM27222M; Manufacturer: National Semiconductor; CompType: Switcher; PackageTopMarking: NSZXTT*27222*M; FirstPublished: 4-Dec-2008; DatasheetVersion: Mar-2006; PackageVersion: revL, Sep-2006; PackageReference: M08A; Publisher: Altium Limited; PackageDescription: SOIC Narrow, 4.9 x 3.9 x 1.45mm, 8 Lead, 1.27mm Pitch; RoHS: O; PinCount: 8; DigiKeyPartNumber: LM27222M-ND; Code_JEDEC: MS-012-AA; Code_IPC: SOIC127P600-8; ComponentLink1Description: LM27222 Datasheet; ComponentLink1URL: http://www.national.com/ds/LM/LM27222.pdf; ComponentLink2Description: LM27222 Web Page; ComponentLink2URL: http://www.national.com/pf/LM/LM27222.html; ComponentLink3Description: M08A Package Drawing; ComponentLink3URL: http://www.national.com/packaging/folders/m08a.html
footprint M08A_N (SOIC, 8-Leads, Body 4.9x3.9mm, Pitch 1.27mm, IPC Medium Density)
footprint M08A_L (SOIC, 8-Leads, Body 4.9x3.9mm, Pitch 1.27mm, IPC High Density)
footprint M08A_M (SOIC, 8-Leads, Body 4.9x3.9mm, Pitch 1.27mm, IPC Low Density)
pins: 1 SW (power), 2 HG (out), 3 CB (in), 4 IN (in), 5 LEN (in), 6 VCC (power), 7 LG (out), 8 GND (power)

## LM27241MTC
designator U?
Synchronous Buck Regulator Controller for Mobile Systems; PartNumber: LM27241MTC; Manufacturer: National Semiconductor; CompType: Switcher; PackageTopMarking: NSUZXYTT*LM27241*MTC; PowerWise: N; FirstPublished: 4-Dec-2008; DatasheetVersion: May-2005; PackageVersion: revE, Mar-2003; PackageReference: MTC20; Publisher: Altium Limited; PackageDescription: Molded TSSOP, Jedec, 6.5 x 4.4 x 0.9mm Body, 20 Lead, 0.65mm Pitch; RoHS: Y; PinCount: 20; DigiKeyPartNumber: LM27241MTC-ND; Code_JEDEC: MO-153-AC; ComponentLink1Description: LM27241 Datasheet; ComponentLink1URL: http://www.national.com/ds/LM/LM27241.pdf; ComponentLink2Description: LM27241 Web Page; ComponentLink2URL: http://www.national.com/pf/LM/LM27241.html; ComponentLink3Description: MTC20 Package Page; ComponentLink3URL: http://www.national.com/packaging/folders/mtc20.html
footprint MTC20_N (TSOP, 20-Leads, Body 6.5x4.4mm, Pitch 0.65mm, IPC Medium Density)
footprint MTC20_L (TSOP, 20-Leads, Body 6.5x4.4mm, Pitch 0.65mm, IPC High Density)
footprint MTC20_M (TSOP, 20-Leads, Body 6.5x4.4mm, Pitch 0.65mm, IPC Low Density)
pins: 1 VDD (power), 2 SS (in), 3 FREQ (in), 4 SGND (power), 5 EN (in), 6 PGOOD (oc), 7 FPWM (in), 8 COMP, 9 FB (in), 10 SENSE, 11 ILIM (in), 12 SW (power), 13 HDRV (power), 14 BOOT, 15 PGND (power), 16 LDRV (power), 17 V5 (power), 18 VIN (power), 19 NC, 20 NC

## LM27313XMF
designator U?
1.6 MHz Boost Converter With 30V Internal FET Switch in SOT-23; PartNumber: LM27313XMF; Manufacturer: National Semiconductor; CompType: Switcher; PackageTopMarking: SRPB*XTT; PowerWise: N; FirstPublished: 4-Dec-2008; DatasheetVersion: Jul-2007; PackageVersion: revD, Aug-2008; PackageReference: MF05A; Publisher: Altium Limited; PackageDescription: Molded SOT-23, .115 x .063 x .040 in Body, 5 Lead, .0375 in Pitch; RoHS: O; PinCount: 5; DigiKeyPartNumber: LM27313XMFCT-ND; ComponentLink1Description: LM27313 Datasheet; ComponentLink1URL: http://www.national.com/ds/LM/LM27313.pdf; ComponentLink2Description: LM27313 Web Page; ComponentLink2URL: http://www.national.com/pf/LM/LM27313.html; ComponentLink3Description: MF05A Package Page; ComponentLink3URL: http://www.national.com/packaging/folders/mf05a.html
footprint MF05A_N (SOT23, 5-Leads, Body 2.9x1.6mm, Pitch 0.95mm, Lead Span 2.8mm, IPC Medium Density)
footprint MF05A_L (SOT23, 5-Leads, Body 2.9x1.6mm, Pitch 0.95mm, Lead Span 2.8mm, IPC High Density)
footprint MF05A_M (SOT23, 5-Leads, Body 2.9x1.6mm, Pitch 0.95mm, Lead Span 2.8mm, IPC Low Density)
pins: 1 SW (power), 2 GND (power), 3 FB (in), 4 ~{SHDN} (in), 5 VIN (power)

## LM27951SD
designator U?
White LED Adaptive 1.5X/1X Switched Capacitor Current Driver; PartNumber: LM27951SD; Manufacturer: National Semiconductor; CompType: Switcher; PackageTopMarking: ZXYTT*D006B; FirstPublished: 4-Dec-2008; DatasheetVersion: Nov-2005; PackageVersion: revA, Jun-2003; PackageReference: SDA14A; Publisher: Altium Limited; PackageDescription: LLP, Plastic, Dual, 4 x 3 x 0.8mm Body, 14 Lead, 0.5mm Pitch, No Pullback; RoHS: Y; PinCount: 14; DigiKeyPartNumber: LM27951SDCT-ND; ComponentLink1Description: LM27951 Datasheet; ComponentLink1URL: http://www.national.com/ds/LM/LM27951.pdf; ComponentLink2Description: LM27951 Web Page; ComponentLink2URL: http://www.national.com/pf/LM/LM27951.html; ComponentLink3Description: SDA14A Package Drawing; ComponentLink3URL: http://www.national.com/packaging/folders/sda14a.html
footprint SDA14A (SON, 14-Leads, Body 4x3mm, Pitch 0.5mm, NSC Recommended)
pins: 1 C2+ (in), 2 VOUT (power), 3 C1+ (in), 4 D4 (oc), 5 D3 (oc), 6 D2 (oc), 7 D1 (oc), 8 ISET (in), 9 EN (in), 10 PWM (in), 11 VIN (power), 12 C2- (in), 13 GND (power), 14 C1- (in), 15 DAP (power)

## LM27952SD
designator U?
White LED Adaptive 1.5X/1X Switched Capacitor Current Driver; PartNumber: LM27952SD; Manufacturer: National Semiconductor; CompType: Switcher; PackageTopMarking: ZXYTT*D005B; FirstPublished: 4-Dec-2008; DatasheetVersion: Aug-2005; PackageVersion: revA, Jun-2003; PackageReference: SDA14A; Publisher: Altium Limited; PackageDescription: LLP, Plastic, Dual, 4 x 3 x 0.8mm Body, 14 Lead, 0.5mm Pitch, No Pullback; RoHS: Y; PinCount: 14; DigiKeyPartNumber: LM27952SDCT-ND; ComponentLink1Description: LM27952 Datasheet; ComponentLink1URL: http://www.national.com/ds/LM/LM27952.pdf; ComponentLink2Description: LM27952 Web Page; ComponentLink2URL: http://www.national.com/pf/LM/LM27952.html; ComponentLink3Description: SDA14A Package Drawing; ComponentLink3URL: http://www.national.com/packaging/folders/sda14a.html
footprint SDA14A (SON, 14-Leads, Body 4x3mm, Pitch 0.5mm, NSC Recommended)
pins: 1 C2+ (in), 2 VOUT (power), 3 C1+ (in), 4 D4 (oc), 5 D3 (oc), 6 D2 (oc), 7 D1 (oc), 8 ISET (in), 9 EN (in), 10 PWM (in), 11 VIN (power), 12 C2- (in), 13 GND (power), 14 C1- (in), 15 DAP (power)

## LM27953TL
designator U?
White LED Driver with Four LED Current Sinks and 3/2x Switched Capacitor Boost; PartNumber: LM27953TL; Manufacturer: National Semiconductor; CompType: Switcher; PackageTopMarking: XYTT*I SHPB; FirstPublished: 4-Dec-2008; DatasheetVersion: Nov-2004; PackageVersion: revD, Jan-2005; PackageReference: TLA18EHA; Publisher: Altium Limited; PackageDescription: Thin Micro SMD, 18 Bump (Large), 0.5mm Pitch; RoHS: Y; PinCount: 18; DigiKeyPartNumber: LM27953TLCT-ND; ComponentLink1Description: LM27953 Datasheet; ComponentLink1URL: http://www.national.com/ds/LM/LM27953.pdf; ComponentLink2Description: LM27953 Web Page; ComponentLink2URL: http://www.national.com/pf/LM/LM27953.html; ComponentLink3Description: TLA18EHA Package Drawing; ComponentLink3URL: http://www.national.com/packaging/folders/tla18eha.html
footprint TLA18EHA (Micro SMD, 18-Leads, Body 2.4x2.1mm, Pitch 0.5mm, NSC Recommended)
pins: A1 C1+ (in), A3 PWR POUT (power), A5 C2+ (in), A7 SGND (power), B2 C1- (in), B4 SIG POUT (power), B6 EN (in), C1 VIN (power), C3 SIG POUT (power), C5 SIG POUT (power), C7 NC, D2 PGND (power), D4 D3 (oc), D6 D1 (oc), E1 C2- (in), E3 D4 (oc), E5 D2 (oc), E7 ISET (in)

## LM27961TL
designator U?
Dual-Display White LED Driver with 3/2x Switched Capacitor Boost; PartNumber: LM27961TL; Manufacturer: National Semiconductor; CompType: Switcher; PackageTopMarking: XYTT*I SECB; FirstPublished: 4-Dec-2008; DatasheetVersion: Nov-2004; PackageVersion: revD, Jan-2005; PackageReference: TLA18EHA; Publisher: Altium Limited; PackageDescription: Thin Micro SMD, 18 Bump (Large), 0.5mm Pitch; RoHS: Y; PinCount: 18; DigiKeyPartNumber: LM27961TLCT-ND; ComponentLink1Description: LM27961 Datasheet; ComponentLink1URL: http://www.national.com/ds/LM/LM27961.pdf; ComponentLink2Description: LM27961 Web Page; ComponentLink2URL: http://www.national.com/pf/LM/LM27961.html; ComponentLink3Description: TLA18EHA Package Drawing; ComponentLink3URL: http://www.national.com/packaging/folders/tla18eha.html
footprint TLA18EHA (Micro SMD, 18-Leads, Body 2.4x2.1mm, Pitch 0.5mm, NSC Recommended)
pins: A1 C1+ (in), A3 POUT (power), A5 C2+ (in), A7 ENB (in), B2 C1- (in), B4 D2B (oc), B6 ENA (in), C1 VIN (power), C3 D3B (oc), C5 D1B (oc), C7 ISETB (in), D2 GND (power), D4 D3A (oc), D6 D1A (oc), E1 C2- (in), E3 D4A (oc), E5 D2A (oc), E7 ISETA (in)